# Altium footprint library UJ2-AV-1-TH.PcbLib: 2 footprints
Each footprint in its own frame and in the unit in brackets; x right, y up, seen from the top. Pads: shape width x height; smd on the part's side, far side on the other; paste and mask are expansions set on the pad; w line width, h text height; cw(c..) or ccw(c..) is an arc to the next point about the centre after c.
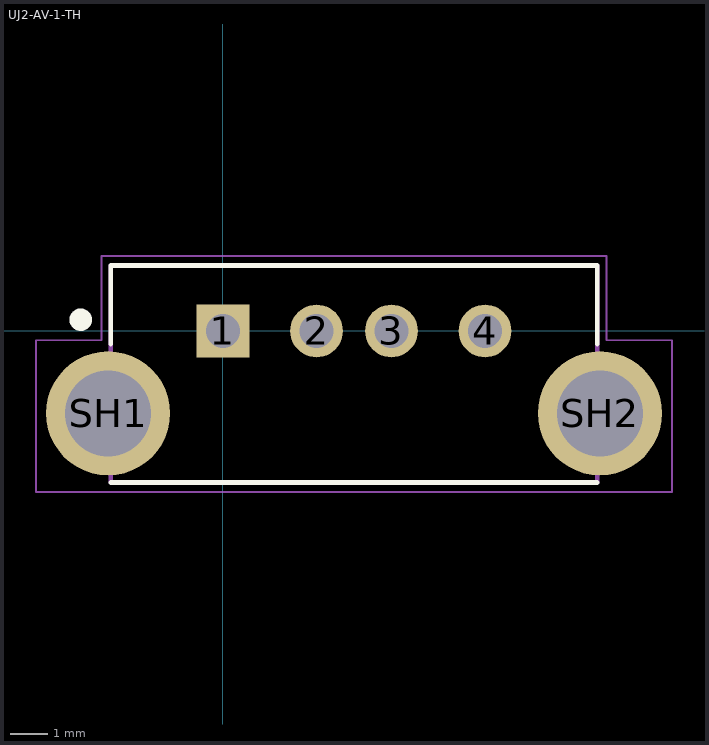
[diagram p0: the footprints below, top view; thin cyan lines are the x and y axes]

## PCBComponent_1 [mm]

## UJ2-AV-1-TH [mm]
pads (6):
  rect 1.408x1.408 hole 0.9: 1(0,0)
  round 1.408 hole 0.9: 2(2.5,0) 3(4.5,0) 4(7,0)
  round 3.316 hole 2.3: SH1(-3.07,-2.2) SH2(10.07,-2.2)
Top Overlay:
  circle w0.3: c-3.8,0.3 r0.15
  lines w0.127: -3,-4.05 10,-4.05 ; -3,-0.35 -3,1.75 10,1.75 10,-0.35
Mechanical 4:
  circle w0.3: c0,0.05 r0.15
  circle w0.3: c0,0.05 r0.15
  lines w0.127: -3,-4.05 -3,1.75 ; -3,-4.05 10,-4.05 ; -3,-4.05 -3,1.75 ; -3,-4.05 10,-4.05 ; -3,1.75 10,1.75 ; -3,1.75 10,1.75 ; 10,-4.05 10,1.75 ; 10,-4.05 10,1.75
Mechanical 16:
  lines w0.05: -5,-4.3 -5,-0.25 -3.25,-0.25 -3.25,2 10.25,2 10.25,-0.25 12,-0.25 12,-4.3 -5,-4.3